# Altium schematic symbol library TE 5-146280-5.Schlib: 1 symbol
Pins are listed as number, name and electrical type; pins without a type are passive.

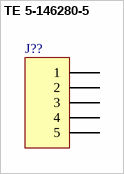
[diagram p0: symbol TE 5-146280-5]

## TE 5-146280-5
designator J??
PCB Mount Header, Vertical, Board-to-Board, 5 Position, 2.54mm; Manufacturer: TE; Part Number: 5-146280-5; Value: 5-146280-5; TYPE: Connectors; ComponentLink1Description: Datasheet link; ComponentLink1URL: https://www.te.com/commerce/DocumentDelivery/DDEController?Action=srchrtrv&DocNm=146280&DocType=Customer+Drawing&DocLang=English&PartCntxt=5-146280-5&DocFormat=pdf; Mount Type: THT; RoHS: Y; Supplier 1: Mouser; Supplier Part Number 1: 571-5-146280-5; Technology: Headers
footprint 5-146280-5 (PCB Mount Header, Vertical, Board-to-Board, 5 Position, 2.54mm)
pins: 1, 2, 3, 4, 5